# Altium schematic symbol library W5500.SchLib: 1 symbol
Pins are listed as number, name and electrical type; pins without a type are passive.

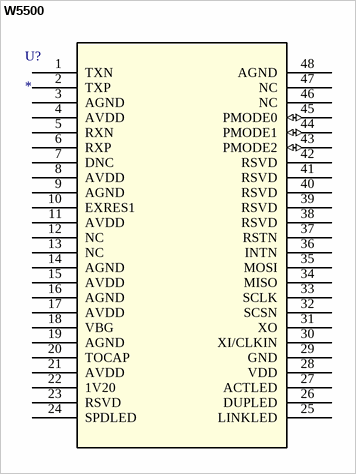
[diagram p0: symbol W5500]

## W5500
designator U?
No Description Available; Mfr_Name: WIZnet; RefDes: RefDes; Type: Type
footprint 48LQFP_W5500_WIZ
pins: 1 TXN, 2 TXP, 3 AGND (power), 4 AVDD (power), 5 RXN, 6 RXP, 7 DNC, 8 AVDD (power), 9 AGND (power), 10 EXRES1, 11 AVDD (power), 12 NC, 13 NC, 14 AGND (power), 15 AVDD (power), 16 AGND (power), 17 AVDD (power), 18 VBG, 19 AGND (power), 20 TOCAP, 21 AVDD (power), 22 1V20, 23 RSVD, 24 SPDLED, 25 LINKLED, 26 DUPLED, 27 ACTLED, 28 VDD (power), 29 GND (power), 30 XI/CLKIN, 31 XO, 32 SCSN, 33 SCLK, 34 MISO, 35 MOSI, 36 INTN, 37 RSTN, 38 RSVD, 39 RSVD, 40 RSVD, 41 RSVD, 42 RSVD, 43 PMODE2 (io), 44 PMODE1 (io), 45 PMODE0 (io), 46 NC, 47 NC, 48 AGND (power)